# Altium schematic symbol library OPA552UA-2K5.Schlib: 1 symbol
Pins are listed as number, name and electrical type; pins without a type are passive.

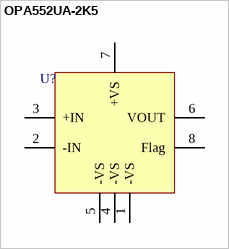
[diagram p0: symbol OPA552UA-2K5]

## OPA552UA-2K5
designator U?
Operational Amplifiers, 1 Channel, -40 to 125, SOIC-8
pins: 1 -VS (power), 2 -IN, 3 +IN, 4 -VS (power), 5 -VS (power), 6 VOUT, 7 +VS (power), 8 Flag